# Altium integrated library SRR1280-101M.IntLib: 1 symbol
Pins are listed as number, name and electrical type; pins without a type are passive.

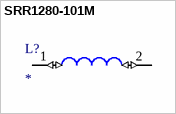
[diagram p0: symbol SRR1280-101M]

## SRR1280-101M
designator L?
100ÂµH Shielded Wirewound Inductor 2.1A 150mOhm Max Nonstandard; MF: Bourns; MP: SRR1280-101M; Purchase-URL: https://pricing.snapeda.com/search/part/SRR1280-101M/?ref=eda; Price: None; SnapEDA_Link: https://www.snapeda.com/parts/SRR1280-101M/Bourns%20-%20J.W.%20Miller/view-part/289867/?ref=snap; Availability: Good; Value: *; Check_prices: https://www.snapeda.com/parts/SRR1280-101M/Bourns%20-%20J.W.%20Miller/view-part/289867/?ref=eda; Package: Nonstandard Bourns
footprint INDPM125125X800N
pins: 1 (io), 2 (io)